# EAGLE library part SN75LBC179 (library Components Library)
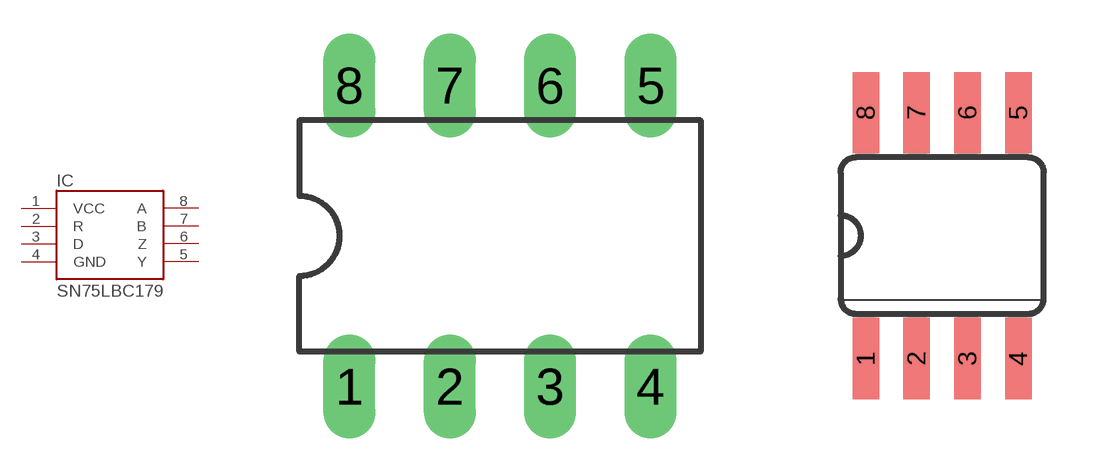
[diagram p4: symbol with the pads of DIL08; footprints DIL08, SO08]

Designator prefix IC

## SN75LBC179P  [DIL08]
1  VCC  pwr
2  R  out
3  D  in
4  GND  pwr
5  Y  out
6  Z  out
7  B  in
8  A  in

## SN75LBC179D  [SO08]
Pads as for DIL08

## Footprint DIL08 (pad centres in mm)
drill 0.813 long: 1 -3.81,-3.81; 2 -1.27,-3.81; 3 1.27,-3.81; 4 3.81,-3.81; 5 3.81,3.81; 6 1.27,3.81; 7 -1.27,3.81; 8 -3.81,3.81

## Footprint SO08 (pad centres in mm)
smd 0.66 x 2.032: 1 -1.905,-3.073; 2 -0.635,-3.073; 3 0.635,-3.073; 4 1.905,-3.073; 5 1.905,3.073; 6 0.635,3.073; 7 -0.635,3.073; 8 -1.905,3.073